# Altium schematic symbol library BC817-40.SchLib: 1 symbol
Pins are listed as number, name and electrical type; pins without a type are passive.

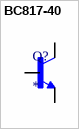
[diagram p0: symbol BC817-40]

## BC817-40
designator Q?
BJT, SOT-23, 45V, 800mA, NPN, 0.31W, 150Â°C; MF: Diotec Semiconductor; MP: BC817-40; SnapEDA_Link: https://www.snapeda.com/parts/BC817-40/Diotec/view-part/?ref=snap; Package: SOT-23 Diotec; Value: *; Check_prices: https://www.snapeda.com/parts/BC817-40/Diotec/view-part/?ref=eda
footprint SOT95P240X120-3N
pins: 1 B, 2 E, 3 C